# EAGLE library part TPS3808DBVR (library sjg-power)
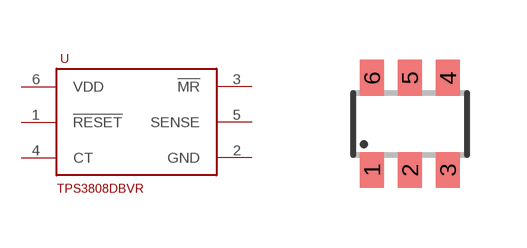
[diagram p0: symbol with the pads of SOT23-6; footprint SOT23-6]

Designator prefix -

## TPS3808DBVR  [SOT23-6]
1  !RESET!
2  GND
3  !MR!
4  CT
5  SENSE
6  VDD

## Footprint SOT23-6 (pad centres in mm)
Small Outline Transistor 6 lead
smd 0.6 x 0.9: 1 -0.95,-1.15; 2 0,-1.15; 3 0.95,-1.15; 4 0.95,1.15; 5 0,1.15; 6 -0.95,1.15